# EAGLE library part CD40109 (library TI)
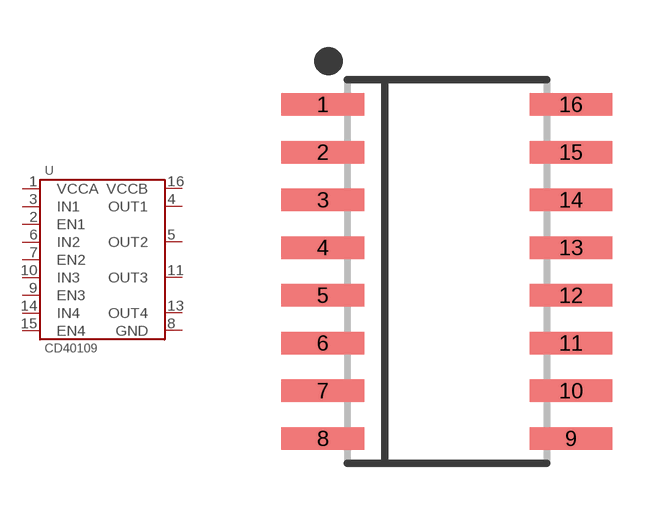
[diagram p9: symbol with the pads of SOIC16-5.3MM; footprint SOIC16-5.3MM]

Designator prefix U

## CD40109BNSR  [SOIC16-5.3MM]
1  VCCA
2  EN1
3  IN1
4  OUT1
5  OUT2
6  IN2
7  EN2
8  GND
9  EN3
10  IN3
11  OUT3
13  OUT4
14  IN4
15  EN4
16  VCCB

## Footprint SOIC16-5.3MM (pad centres in mm)
smd 2.2 x 0.6: 1 -3.3,4.445; 2 -3.3,3.175; 3 -3.3,1.905; 4 -3.3,0.635; 5 -3.3,-0.635; 6 -3.3,-1.905; 7 -3.3,-3.175; 8 -3.3,-4.445; 9 3.3,-4.445; 10 3.3,-3.175; 11 3.3,-1.905; 12 3.3,-0.635; 13 3.3,0.635; 14 3.3,1.905; 15 3.3,3.175; 16 3.3,4.445